# EAGLE library part SWD-6_PIN (library p.peter-connectors)
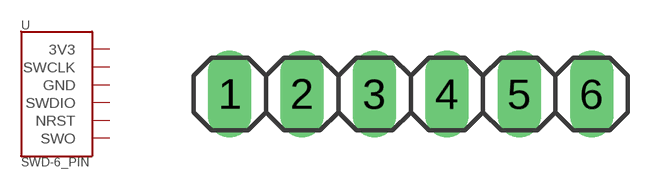
[diagram p6: symbol with the pads of PINHEADER-100MIL-1X6; footprint PINHEADER-100MIL-1X6]

Designator prefix -

## SWD-6_PIN100_MIL  [PINHEADER-100MIL-1X6]
1  3V3
2  SWCLK
3  GND
4  SWDIO
5  NRST
6  SWO

## Footprint PINHEADER-100MIL-1X6 (pad centres in mm)
PIN HEADER
drill 1.016 long: 1 -6.35,0; 2 -3.81,0; 3 -1.27,0; 4 1.27,0; 5 3.81,0; 6 6.35,0